# EAGLE library part ADC_PCM1808PW (library My_STM32F767)
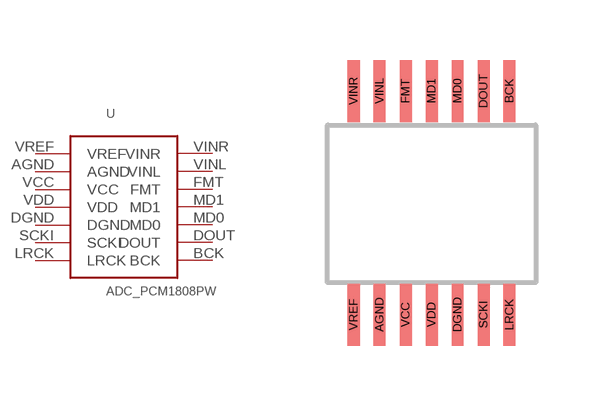
[diagram p4: symbol with the pads of ADC_PCM1808PW; footprint ADC_PCM1808PW]

Designator prefix -

## ADC_PCM1808PW  [ADC_PCM1808PW]
AGND  AGND
BCK  BCK
DGND  DGND
DOUT  DOUT
FMT  FMT
LRCK  LRCK
MD0  MD0
MD1  MD1
SCKI  SCKI
VCC  VCC
VDD  VDD
VINL  VINL
VINR  VINR
VREF  VREF

## Footprint ADC_PCM1808PW (pad centres in mm)
smd 0.3 x 1.55: AGND -1.3,-2.6; BCK 1.95,3; DGND 0.65,-2.6; DOUT 1.3,3; FMT -0.65,3; LRCK 1.95,-2.6; MD0 0.65,3; MD1 0,3; SCKI 1.3,-2.6; VCC -0.65,-2.6; VDD 0,-2.6; VINL -1.3,3; VINR -1.95,3; VREF -1.95,-2.6